# Altium footprint library AAH_comm_lib.PcbLib: 19 footprints (part 2 of 2)
Each footprint in its own frame and in the unit in brackets; x right, y up, seen from the top. Pads: shape width x height; smd on the part's side, far side on the other; paste and mask are expansions set on the pad; w line width, h text height; cw(c..) or ccw(c..) is an arc to the next point about the centre after c.
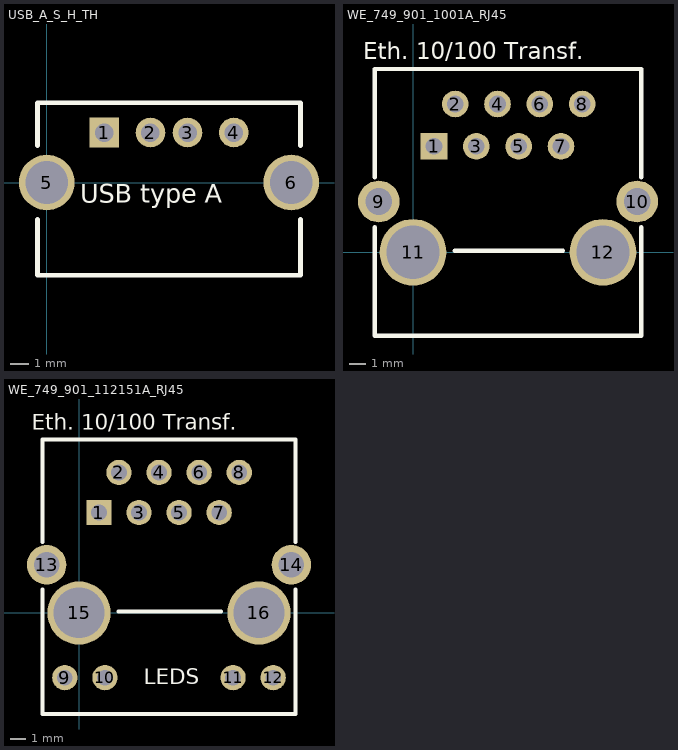
[diagram p1: the footprints below, top view; thin cyan lines are the x and y axes]

## USB_A_S_H_TH [mm] "USB Type A single horizontal board connector"
height 7.5
pads (6):
  rect 1.6x1.6 hole 1: 1(3.1,2.7)
  round 1.6 hole 1: 2(5.6,2.7) 3(7.6,2.7) 4(10.1,2.7)
  round 3 hole 2.3: 5(0,0) 6(13.2,0)
Top Overlay:
  lines w0.254: -0.5,-2 -0.5,-5 13.7,-5 13.7,-2 ; -0.5,2 -0.5,4.3 13.7,4.3 13.7,2
  text "USB type A" at 1.8,-1.1 h1
3D body: height 7, standoff 1, extent -1,-10.3 14.2,4.3

## WE_749_901_1001A_RJ45 [mm] "RJ-45 Connector without leds"
height 14
pads (12):
  rect 1.6x1.6 hole 1: 1(1.26,6.36)
  round 1.6 hole 1: 2(2.53,8.9) 3(3.8,6.36) 4(5.07,8.9) 5(6.34,6.36) 6(7.61,8.9) 7(8.88,6.36) 8(10.15,8.9)
  round 2.5 hole 1.6: 9(-2.05,3.05) 10(13.45,3.05)
  round 4 hole 3.2: 11(0,0) 12(11.4,0)
Top Overlay:
  lines w0.254: -2.3,1.5 -2.3,-5 13.7,-5 13.7,1.5 ; -2.3,4.5 -2.3,11 13.7,11 13.7,4.5 ; 2.5,0.1 9,0.1
  text "Eth. 10/100 Transf." at -3,11.6 h1
3D body: height 15.5, standoff 1.25, extent -2.3,-10.9 13.7,11

## WE_749_901_112151A_RJ45 [mm] "RJ-45 Connector with leds"
height 14
pads (16):
  rect 1.6x1.6 hole 1: 1(1.26,6.36)
  round 1.6 hole 1: 2(2.53,8.9) 3(3.8,6.36) 4(5.07,8.9) 5(6.34,6.36) 6(7.61,8.9) 7(8.88,6.36) 8(10.15,8.9) 9(-0.9,-4.1) 10(1.64,-4.1) 11(9.76,-4.1) 12(12.3,-4.1)
  round 2.5 hole 1.6: 13(-2.05,3.05) 14(13.45,3.05)
  round 4 hole 3.2: 15(0,0) 16(11.4,0)
Top Overlay:
  lines w0.254: -2.3,1.5 -2.3,-6.4 13.7,-6.4 13.7,1.5 ; -2.3,4.5 -2.3,11 13.7,11 13.7,4.5 ; 2.5,0.1 9,0.1
  text "LEDS" at 4.1,-4.5 h1
  text "Eth. 10/100 Transf." at -3,11.6 h1
3D body: height 15.5, standoff 1.25, extent -2.3,-10.9 13.7,11